# Altium schematic symbol library Cap_TDK_CGA2B2C0G2A151J050BE_150pF.SchLib: 1 symbol
Pins are listed as number, name and electrical type; pins without a type are passive.

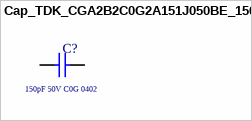
[diagram p0: symbol Cap_TDK_CGA2B2C0G2A151J050BE_150pF]

## Cap_TDK_CGA2B2C0G2A151J050BE_150pF
designator C?  Capacitance: 150pF 50V C0G 0402  (hidden comment: Cap_TDK_CGA2B2C0G2A151J050BE_150pF)
CAP 150pF 50V C0G ±1% 0402 (1000 Metric) Thickness 1mm SMD; Supplier 1: Mouser; Supplier Part Number 1: 810-CGA2B2C0G2A151J0
footprint Cap_TDK_CGA2B2C0G2A151J050BE_150pF
pins: 1, 2